# EAGLE library part WEMOS-D1-MINI (library robot)
WeMos.cc D1 mini ESP8266 module
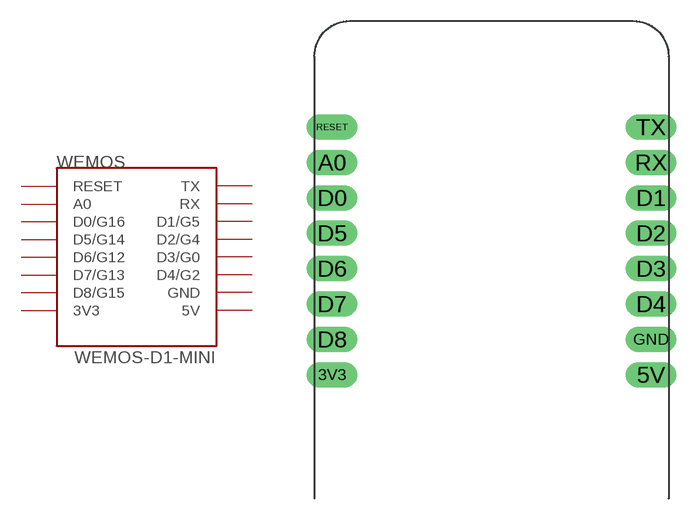
[diagram p4: symbol with the pads of WEMOS-D1-MINI; footprint WEMOS-D1-MINI]

Designator prefix WEMOS

## WEMOS-D1-MINI  [WEMOS-D1-MINI]
3V3  3V3
5V  5V
A0  A0
D0  D0/G16
D1  D1/G5
D2  D2/G4
D3  D3/G0
D4  D4/G2
D5  D5/G14
D6  D6/G12
D7  D7/G13
D8  D8/G15
GND  GND
RESET  RESET
RX  RX
TX  TX

## Footprint WEMOS-D1-MINI (pad centres in mm)
WeMos.cc D1 mini ESP8266 module
drill 1 pad 1.829 long: 3V3 -11.43,-10.16; 5V 11.43,-10.16; A0 -11.43,5.08; D0 -11.43,2.54; D1 11.43,2.54; D2 11.43,0; D3 11.43,-2.54; D4 11.43,-5.08; D5 -11.43,0; D6 -11.43,-2.54; D7 -11.43,-5.08; D8 -11.43,-7.62; GND 11.43,-7.62; RESET -11.43,7.62; RX 11.43,5.08; TX 11.43,7.62